# Altium footprint library RD3399-20181026.PcbLib: 57 footprints (part 1 of 4)
Each footprint in its own frame and in the unit in brackets; x right, y up, seen from the top. Pads: shape width x height; smd on the part's side, far side on the other; paste and mask are expansions set on the pad; w line width, h text height; cw(c..) or ccw(c..) is an arc to the next point about the centre after c.
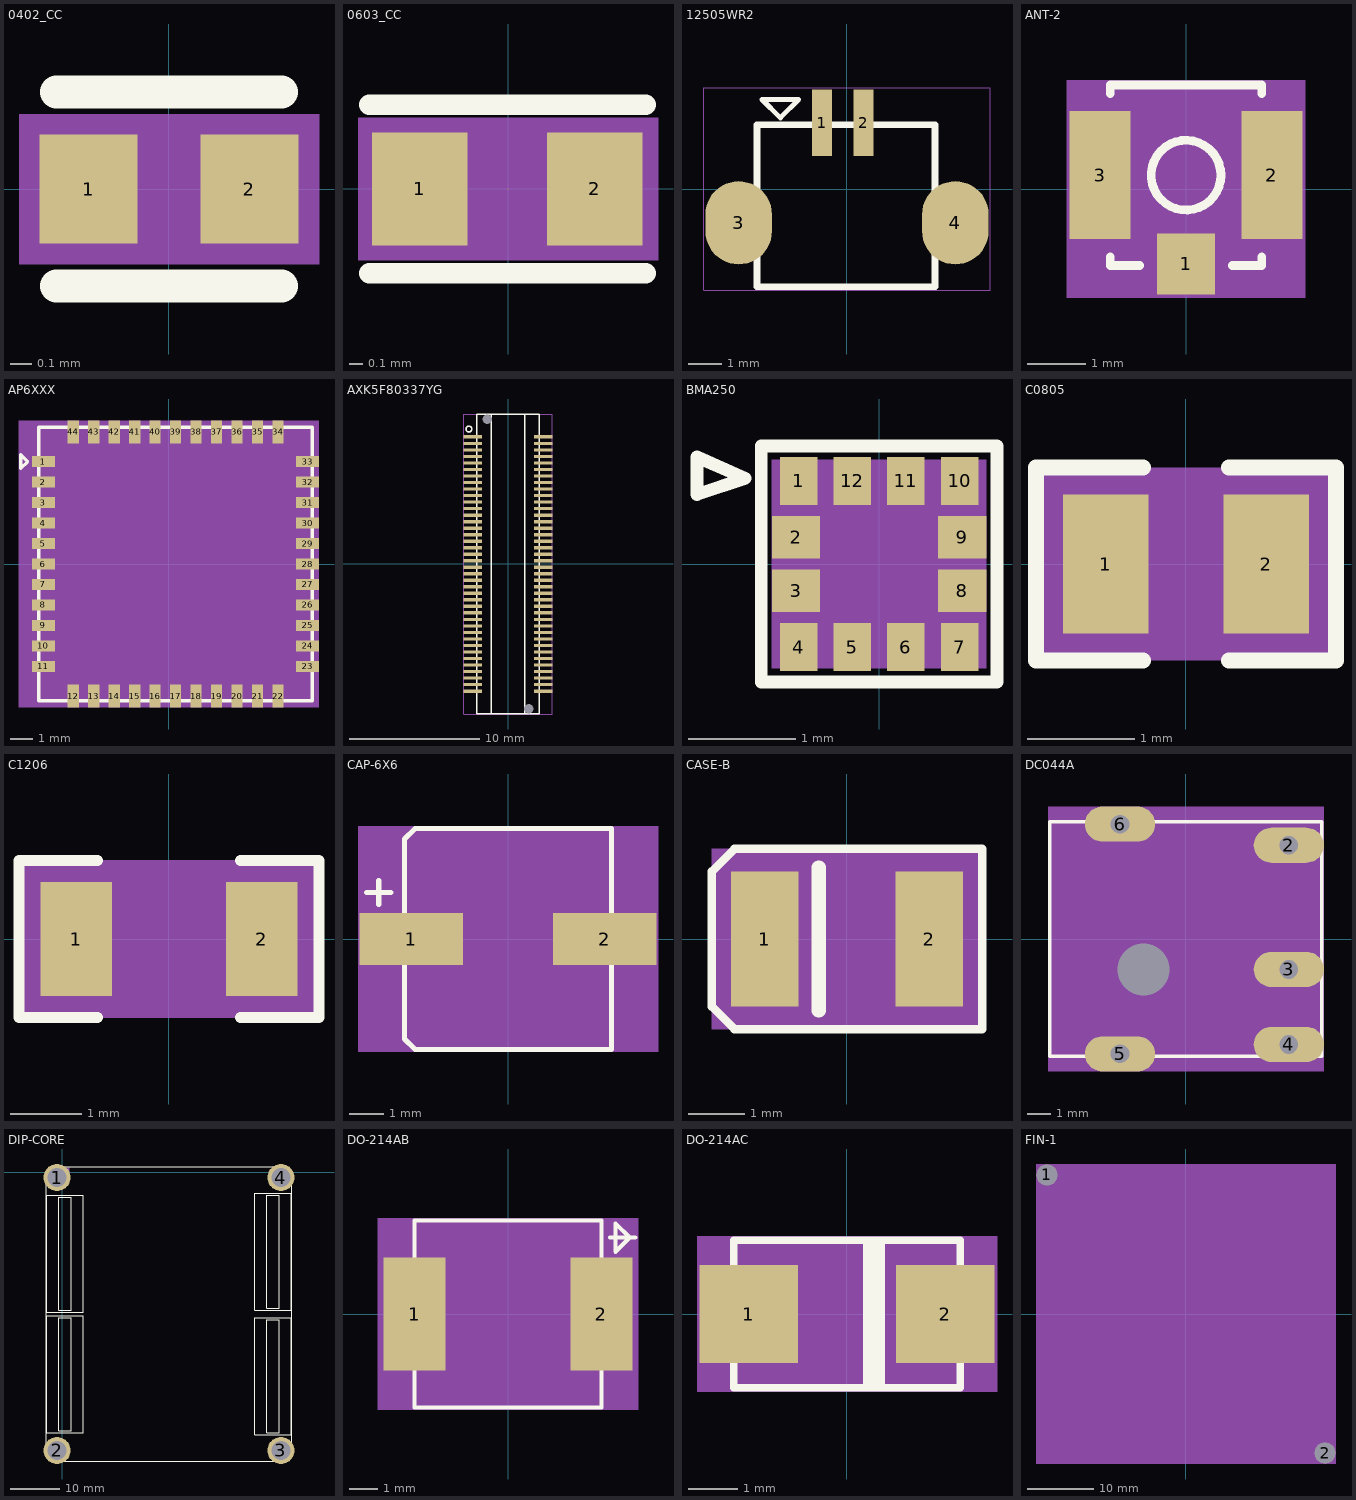
[diagram p0: the footprints below, top view; thin cyan lines are the x and y axes]

## 0402_CC [mil] "0402_CC"
pads (2):
  rect 18x20 smd: 1(-14.76,0) 2(14.76,0)
Top Overlay:
  lines w6: -20.67,-17.83 20.67,-17.83 ; -20.67,17.83 20.67,17.83
  text ".Designator" at -104.33,72.63 h31.5
Mechanical 7:
  text "2" at 14.76,-10 h25
  text "1" at -14.76,-10 h25
Mechanical 8:
  region: -27.56,13.78 -27.56,-13.78 27.56,-13.78 27.56,13.78
Mechanical 9:
  text "0.1uF" at -23.62,-7.87 h25

## 0603_CC [mil] "0603_CC"
pads (2):
  rect 28x33 smd: 1(-25.79,0) 2(25.39,0)
Top Overlay:
  lines w6: -40.67,-24.72 40.27,-24.72 ; -40.67,24.72 40.27,24.72
Mechanical 7:
  text "2" at 25.39,-6.3 h15.75
  text "1" at -25.79,-6.3 h15.75
Mechanical 8:
  region: -38.78,-20.87 43.9,-20.87 43.9,20.87 -43.9,20.87 -43.9,-18.5 -43.9,-20.87
Mechanical 9:
  text "22uF" at -0.2,0 h15.75
  text ".Designator" at -0.24,-50.98 h23.62

## 12505WR2 [mm] "12505WR2"
pads (4):
  rect 0.6x2 smd: 1(-0.75,1.986) 2(0.5,1.986)
  oval 2x2.5 smd: 3(-3.25,-1.014) 4(3.25,-1.014)
Top Overlay:
  lines w0.152: -2.55,2.686 -1.45,2.686 -2,2.136 -2.55,2.686
  lines w0.203: -2.7,-2.934 -2.7,1.926 2.64,1.926 2.64,-2.934 -2.7,-2.934
Mechanical 7:
  text "3" at -3.504,-1.014 h0.64
  text "4" at 2.996,-1.014 h0.64
  text "2" at 0.246,1.986 h0.64
  text "1" at -1.004,1.986 h0.64
Mechanical 8:
  lines w0.025: -4.3,-3.036 -4.3,3.036 4.3,3.036 4.3,-3.036 -4.3,-3.036
Mechanical 9:
  text ".Designator" at -0.9,-0.789 h0.6
  text "3V" at -0.75,-0.554 h1.27

## ANT-2 [mm] "ANT-2"
pads (3):
  rect 1.001x1.049 smd: 1(0,-1.286)
  rect 1.049x2.2 smd: 2(1.476,0.238) 3(-1.476,0.238)
Top Overlay:
  circle w0.15: c0,0.238 r0.599
  lines w0.15: -1.301,-1.162 -1.301,-1.312 -0.8,-1.312 ; -1.301,1.637 -1.301,1.787 1.301,1.787 1.301,1.637 ; 0.8,-1.312 1.301,-1.312 1.301,-1.162
Mechanical 7:
  text "3" at -1.222,0.238 h0.64
  text "2" at 1.73,0.238 h0.64
  text "1" at 0.254,-1.286 h0.64
Mechanical 8:
  region: -2.05,-1.863 2.05,-1.863 2.05,1.863 -2.05,1.863
Mechanical 9:
  text ".Designator" at 0.775,0.587 h0.6
  text "RF_3P" at 0,0.238 h1.27

## AP6XXX [mm] "AP6XXX"
pads (44):
  rect 1x0.5 smd: 1(-5.512,4.5) 2(-5.512,3.6) 3(-5.512,2.7) 4(-5.512,1.8) 5(-5.512,0.9) 6(-5.512,0) 7(-5.512,-0.9) 8(-5.512,-1.8) 9(-5.512,-2.7) 10(-5.512,-3.6) 11(-5.512,-4.5) 23(6.088,-4.5) 24(6.088,-3.6) 25(6.088,-2.7) 26(6.088,-1.8) 27(6.088,-0.9) 28(6.088,0) 29(6.088,0.9) 30(6.088,1.8) 31(6.088,2.7) 32(6.088,3.6) 33(6.088,4.5)
  rect 0.5x1 smd: 12(-4.212,-5.8) 13(-3.312,-5.8) 14(-2.412,-5.8) 15(-1.512,-5.8) 16(-0.612,-5.8) 17(0.288,-5.8) 18(1.188,-5.8) 19(2.088,-5.8) 20(2.988,-5.8) 21(3.888,-5.8) 22(4.788,-5.8) 34(4.788,5.8) 35(3.888,5.8) 36(2.988,5.8) 37(2.088,5.8) 38(1.188,5.8) 39(0.288,5.8) 40(-0.612,5.8) 41(-1.512,5.8) 42(-2.412,5.8) 43(-3.312,5.8) 44(-4.212,5.8)
Top Overlay:
  lines w0.15: -6.512,4.2 -6.212,4.5 -6.512,4.8 -6.512,4.2 ; -5.712,-6 -5.712,6 6.288,6 6.288,-6 -5.712,-6
  text ".Designator" at -3.337,7.95 h0.8
Mechanical 7:
  text "8" at -5.309,-1.8 h0.51
  text "4" at -5.309,1.8 h0.51
  text "32" at 6.494,3.6 h0.51
  text "37" at 2.494,5.8 h0.51
  text "35" at 4.294,5.8 h0.51
  text "38" at 1.594,5.8 h0.51
  text "5" at -5.309,0.9 h0.51
  text "26" at 6.494,-1.8 h0.51
  text "27" at 6.494,-0.9 h0.51
  text "25" at 6.494,-2.7 h0.51
  text "28" at 6.494,0 h0.51
  text "30" at 6.494,1.8 h0.51
  text "40" at -0.206,5.8 h0.51
  text "39" at 0.694,5.8 h0.51
  text "20" at 3.394,-5.8 h0.51
  text "3" at -5.309,2.7 h0.51
  text "1" at -5.309,4.5 h0.51
  text "33" at 6.494,4.5 h0.51
  text "31" at 6.494,2.7 h0.51
  text "36" at 3.394,5.8 h0.51
  text "34" at 5.194,5.8 h0.51
  text "42" at -2.006,5.8 h0.51
  text "12" at -3.806,-5.8 h0.51
  text "7" at -5.309,-0.9 h0.51
  text "6" at -5.309,0 h0.51
  text "24" at 6.494,-3.6 h0.51
  text "44" at -3.806,5.8 h0.51
  text "43" at -2.906,5.8 h0.51
  text "13" at -2.906,-5.8 h0.51
  text "41" at -1.106,5.8 h0.51
  text "22" at 5.194,-5.8 h0.51
  text "10" at -5.106,-3.6 h0.51
  text "11" at -5.106,-4.5 h0.51
  text "21" at 4.294,-5.8 h0.51
  text "2" at -5.309,3.6 h0.51
  text "29" at 6.494,0.9 h0.51
  text "23" at 6.494,-4.5 h0.51
  text "9" at -5.309,-2.7 h0.51
  text "18" at 1.594,-5.8 h0.51
  text "19" at 2.494,-5.8 h0.51
  text "14" at -2.006,-5.8 h0.51
  text "15" at -1.106,-5.8 h0.51
  text "16" at -0.206,-5.8 h0.51
  text "17" at 0.694,-5.8 h0.51
Mechanical 8:
  region: -6.587,-6.3 6.588,-6.3 6.588,6.3 -6.587,6.3
Mechanical 9:
  text "AP6212" at -0.112,-0.5 h1.27

## AXK5F80337YG [mm] "AXK5F80337YG"
pads (82):
  rect 1.39x0.254 smd: 1(-2.7,9.75) 2(-2.7,9.25) 3(-2.7,8.75) 4(-2.7,8.25) 5(-2.7,7.75) 6(-2.7,7.25) 7(-2.7,6.75) 8(-2.7,6.25) 9(-2.7,5.75) 10(-2.7,5.25) 11(-2.7,4.75) 12(-2.7,4.25) 13(-2.7,3.75) 14(-2.7,3.25) 15(-2.7,2.75) 16(-2.7,2.25) 17(-2.7,1.75) 18(-2.7,1.25) 19(-2.7,0.75) 20(-2.7,0.25) 21(-2.7,-0.25) 22(-2.7,-0.75) 23(-2.7,-1.25) 24(-2.7,-1.75) 25(-2.7,-2.25) 26(-2.7,-2.75) 27(-2.7,-3.25) 28(-2.7,-3.75) 29(-2.7,-4.25) 30(-2.7,-4.75) 31(-2.7,-5.25) 32(-2.7,-5.75) 33(-2.7,-6.25) 34(-2.7,-6.75) 35(-2.7,-7.25) 36(-2.7,-7.75) 37(-2.7,-8.25) 38(-2.7,-8.75) 39(-2.7,-9.25) 40(-2.7,-9.75) 41(2.7,-9.75) 42(2.7,-9.25) 43(2.7,-8.75) 44(2.7,-8.25) 45(2.7,-7.75) 46(2.7,-7.25) 47(2.7,-6.75) 48(2.7,-6.25) 49(2.7,-5.75) 50(2.7,-5.25) 51(2.7,-4.75) 52(2.7,-4.25) 53(2.7,-3.75) 54(2.7,-3.25) 55(2.7,-2.75) 56(2.7,-2.25) 57(2.7,-1.75) 58(2.7,-1.25) 59(2.7,-0.75) 60(2.7,-0.25) 61(2.7,0.25) 62(2.7,0.75) 63(2.7,1.25) 64(2.7,1.75) 65(2.7,2.25) 66(2.7,2.75) 67(2.7,3.25) 68(2.7,3.75) 69(2.7,4.25) 70(2.7,4.75) 71(2.7,5.25) 72(2.7,5.75) 73(2.7,6.25) 74(2.7,6.75) 75(2.7,7.25) 76(2.7,7.75) 77(2.7,8.25) 78(2.7,8.75) 79(2.7,9.25) 80(2.7,9.75)
  round 0.6 hole 0.75: " "(-1.6,11.1) " "(1.6,-11.1)
Top Overlay:
  circle w0.12: c-3,10.35 r0.224
  lines w0.12: -2.4,-11.5 -2.4,11.5 2.4,11.5 2.4,-11.5 -2.4,-11.5 ; -1.3,-11.5 -1.3,11.5 -0.9,11.5 1.3,11.5 1.3,-11.5 -1.3,-11.5
Mechanical 7:
  text "75" at 2.192,7.25 h0.64
  text "78" at 2.192,8.75 h0.64
  text "67" at 2.192,3.25 h0.64
  text "5" at -2.954,7.75 h0.64
  text "9" at -2.954,5.75 h0.64
  text "12" at -3.208,4.25 h0.64
  text "15" at -3.208,2.75 h0.64
  text "62" at 2.192,0.75 h0.64
  text "57" at 2.192,-1.75 h0.64
  text "24" at -3.208,-1.75 h0.64
  text "18" at -3.208,1.25 h0.64
  text "21" at -3.208,-0.25 h0.64
  text "52" at 2.192,-4.25 h0.64
  text "27" at -3.208,-3.25 h0.64
  text "30" at -3.208,-4.75 h0.64
  text "33" at -3.208,-6.25 h0.64
  text "36" at -3.208,-7.75 h0.64
  text "37" at -3.208,-8.25 h0.64
  text "38" at -3.208,-8.75 h0.64
  text "40" at -3.208,-9.75 h0.64
  text "39" at -3.208,-9.25 h0.64
  text "74" at 2.192,6.75 h0.64
  text "45" at 2.192,-7.75 h0.64
  text "46" at 2.192,-7.25 h0.64
  text "63" at 2.192,1.25 h0.64
  text "70" at 2.192,4.75 h0.64
  text "76" at 2.192,7.75 h0.64
  text "64" at 2.192,1.75 h0.64
  text "44" at 2.192,-8.25 h0.64
  text "65" at 2.192,2.25 h0.64
  text "42" at 2.192,-9.25 h0.64
  text "41" at 2.192,-9.75 h0.64
  text "72" at 2.192,5.75 h0.64
  text "77" at 2.192,8.25 h0.64
  text "4" at -2.954,8.25 h0.64
  text "73" at 2.192,6.25 h0.64
  text "71" at 2.192,5.25 h0.64
  text "66" at 2.192,2.75 h0.64
  text "7" at -2.954,6.75 h0.64
  text "8" at -2.954,6.25 h0.64
  text "1" at -2.954,9.75 h0.64
  text "80" at 2.192,9.75 h0.64
  text "79" at 2.192,9.25 h0.64
  text "43" at 2.192,-8.75 h0.64
  text "48" at 2.192,-6.25 h0.64
  text "50" at 2.192,-5.25 h0.64
  text "49" at 2.192,-5.75 h0.64
  text "51" at 2.192,-4.75 h0.64
  text "2" at -2.954,9.25 h0.64
  text "3" at -2.954,8.75 h0.64
  text "47" at 2.192,-6.75 h0.64
  text "28" at -3.208,-3.75 h0.64
  text "20" at -3.208,0.25 h0.64
  text "13" at -3.208,3.75 h0.64
  text "10" at -3.208,5.25 h0.64
  text "32" at -3.208,-5.75 h0.64
  text "14" at -3.208,3.25 h0.64
  text "19" at -3.208,0.75 h0.64
  text "16" at -3.208,2.25 h0.64
  text "11" at -3.208,4.75 h0.64
  text "23" at -3.208,-1.25 h0.64
  text "17" at -3.208,1.75 h0.64
  text "22" at -3.208,-0.75 h0.64
  text "25" at -3.208,-2.25 h0.64
  text "26" at -3.208,-2.75 h0.64
  text "60" at 2.192,-0.25 h0.64
  text "55" at 2.192,-2.75 h0.64
  text "58" at 2.192,-1.25 h0.64
  text "56" at 2.192,-2.25 h0.64
  text "53" at 2.192,-3.75 h0.64
  text "59" at 2.192,-0.75 h0.64
  text "54" at 2.192,-3.25 h0.64
  text "69" at 2.192,4.25 h0.64
  text "61" at 2.192,0.25 h0.64
  text "35" at -3.208,-7.25 h0.64
  text "29" at -3.208,-4.25 h0.64
  text "34" at -3.208,-6.75 h0.64
  text "68" at 2.192,3.75 h0.64
  text "31" at -3.208,-5.25 h0.64
  text "6" at -2.954,7.25 h0.64
Mechanical 8:
  lines w0.025: -3.395,-11.506 -3.395,11.506 3.395,11.506 3.395,-11.506 -3.395,-11.506
Mechanical 9:
  lines w0.025: -3.395,-11.506 -3.395,11.506 3.395,11.506 3.395,-11.506 -3.395,-11.506
  text ".Designator" at -0.55,-1.025 h0.6
  text "AXK5F80337YG" at -0.7,-2 h1.27

## BMA250 [mm] "BMA250"
pads (12):
  rect 0.35x0.45 smd: 1(-0.75,0.775) 4(-0.75,-0.775) 5(-0.25,-0.775) 6(0.25,-0.775) 7(0.75,-0.775) 10(0.75,0.775) 11(0.25,0.775) 12(-0.25,0.775)
  rect 0.45x0.4 smd: 2(-0.775,0.25) 3(-0.775,-0.25) 8(0.775,-0.25) 9(0.775,0.25)
Top Overlay:
  lines w0.12: -1.7,0.65 -1.7,1 -1.25,0.8 -1.7,0.65 ; -1.1,-1.1 1.1,-1.1 1.1,1.1 -1.1,1.1 -1.1,-1.1
  text ".Designator" at 0.5,-1.45 h0.7
Mechanical 7:
  text "10" at 1.258,0.775 h0.64
  text "6" at 0.504,-0.775 h0.64
  text "4" at -0.496,-0.775 h0.64
  text "8" at 1.029,-0.25 h0.64
  text "9" at 1.029,0.25 h0.64
  text "2" at -0.521,0.25 h0.64
  text "3" at -0.521,-0.25 h0.64
  text "11" at 0.758,0.775 h0.64
  text "12" at 0.258,0.775 h0.64
  text "7" at 1.004,-0.775 h0.64
  text "5" at 0.004,-0.775 h0.64
  text "1" at -0.496,0.775 h0.64
Mechanical 8:
  region: -1,-0.975 1,-0.975 1,0.975 -1,0.975

## C0805 [mm] "C0805"
pads (2):
  rect 0.8x1.3 smd: 1(-0.75,0) 2(0.75,0)
Top Overlay:
  lines w0.15: -0.4,-0.9 -1.4,-0.9 -1.4,0.9 -0.4,0.9 ; 0.4,-0.9 1.4,-0.9 1.4,0.9 0.4,0.9
  text ".Designator" at 1.25,2.05 h0.7
Mechanical 7:
  text "2" at 1.004,0 h0.64
  text "1" at -0.496,0 h0.64
Mechanical 8:
  region: 1.4,0.9 -1.4,0.9 -1.4,-0.9 1.4,-0.9
Mechanical 9:
  text "22uF 16V" at -1.3,-0.4 h1

## C1206 [mm] "C1206"
pads (2):
  rect 1x1.6 smd: 1(-1.299,0) 2(1.3,0)
Top Overlay:
  lines w0.15: -1,-1.1 -2.1,-1.1 -2.1,1.1 -1,1.1 ; 1,-1.1 2.1,-1.1 2.1,1.1 1,1.1
  text ".Designator" at 2.675,1.625 h0.8
Mechanical 7:
  text "2" at 1.3,0.254 h0.64
  text "1" at -1.299,0.254 h0.64
Mechanical 8:
  region: 2.1,-1.1 2.1,1.1 -2.1,1.1 -2.1,-1.1
Mechanical 9:
  text "10nF 1KV" at -1.3,-0.599 h1.27

## CAP-6X6 [mm] "CAP-6X6"
pads (2):
  rect 3x1.5 smd: 1(-2.8,0) 2(2.8,0)
Top Overlay:
  lines w0.15: -4.1,1.35 -3.4,1.35 ; -3.75,1 -3.75,1.7 ; -3,-2.9 -2.7,-3.2 3,-3.2 3,-3 3,3 3,3.2 -2.7,3.2 -3,2.9 -3,2.7 -3,1 -3,-2.7 -3,-2.9
  text ".Designator" at -0.775,-10.65 h0.7
Mechanical 7:
  text "2" at 3.003,0 h0.51
  text "1" at -2.597,0 h0.51
Mechanical 8:
  region: -4.35,-3.275 4.35,-3.275 4.35,3.275 -4.35,3.275
Mechanical 9:
  text "220uF 16V" at -1,-0.7 h1.27

## CASE-B [mm] "CASE-B"
pads (2):
  rect 1.2x2.4 smd: 1(-1.464,0) 2(1.465,0)
Top Overlay:
  lines w0.15: -2.4,-1.2 -2,-1.6 -0.1,-1.6 2.4,-1.6 2.4,1.6 -2,1.6 -2.4,1.2 -2.4,-1.2
  lines w0.254: -0.5,-1.27 -0.5,1.27
  text ".Designator" at 2.825,1.525 h0.7
Mechanical 7:
  text "2" at 1.465,0.254 h0.64
  text "1" at -1.464,0.254 h0.64
Mechanical 8:
  region: 2.4,1.6 -2.4,1.6 -2.4,-1.6 2.4,-1.6
Mechanical 9:
  text "220uF 10V" at -1.699,-0.599 h1.27

## DC044A [mm] "DC044A"
pads (6):
  oval 3x1.5 hole 0.8: 2(4.388,4) 3(4.388,-1.3) 4(4.388,-4.5) 5(-2.812,-4.9) 6(-2.812,4.9)
  round 2 hole 2.2: " "(-1.812,-1.3)
Top Overlay:
  lines w0.15: -5.812,-5 -5.812,5 5.788,5 5.788,-5 -5.812,-5
Mechanical 7:
  text "3" at 4.388,-1.364 h0.08
  text "4" at 4.388,-4.564 h0.08
  text "6" at -2.812,4.836 h0.08
  text "5" at -2.812,-4.964 h0.08
  text "2" at 4.388,3.936 h0.08
Mechanical 8:
  region: -5.887,-5.65 5.888,-5.65 5.888,5.65 -5.887,5.65
Mechanical 9:
  text ".Designator" at -2.612,-1.5 h0.6
  text "DC_5V" at 2.887,7.3 h0.6

## DIP-CORE [mm] "DIP-CORE"
pads (4):
  round 5.5 hole 3.8: 1(-1.06,-1.095) 2(-1.06,-56.695) 3(44.54,-56.695) 4(44.54,-1.095)
Top Overlay:
  lines w0.12: -0.735,-52.67 -0.735,-29.67 1.865,-29.67 1.865,-52.67 -0.735,-52.67 ; -0.735,-28.12 -0.735,-5.12 1.865,-5.12 1.865,-28.12 -0.735,-28.12 ; 41.615,-53.07 41.615,-30.07 44.215,-30.07 44.215,-53.07 41.615,-53.07 ; 41.615,-27.72 41.615,-4.72 44.215,-4.72 44.215,-27.72 41.615,-27.72
  lines w0.15: -3.26,-56.895 ccw(c-1.26,-56.895) -1.26,-58.895 44.64,-58.895 ccw(c44.64,-56.795) 46.74,-56.795 46.74,-1.095 ccw(c44.54,-1.095) 44.54,1.105 11.44,1.105 -0.96,1.105 ccw(c-0.96,-1.195) -3.26,-1.195 -3.26,-56.895 ; -3.11,-53.095 -3.11,-29.245 4.24,-29.245 4.24,-53.095 -3.11,-53.095 ; -3.11,-28.545 -3.11,-4.695 4.24,-4.695 4.24,-28.545 -3.11,-28.545 ; 39.24,-53.495 39.24,-29.645 46.59,-29.645 46.59,-53.495 39.24,-53.495 ; 39.24,-28.145 39.24,-4.295 46.59,-4.295 46.59,-28.145 39.24,-28.145
  text ".Designator" at 22.015,-60.52 h0.8
Mechanical 7:
  text "1" at -1.568,-1.095 h0.64
  text "4" at 44.032,-1.095 h0.64
  text "3" at 44.032,-56.695 h0.64
  text "2" at -1.568,-56.695 h0.64
Mechanical 8:
  region: -1.41,0.905 -1.41,-0.905 1.41,-0.905 1.41,0.905
Mechanical 9:
  text "CON4" at 24.69,-29.545 h1.27

## DO-214AB [mm] "DO-214AB"
pads (2):
  rect 2.2x4 smd: 1(-3.3,0) 2(3.3,0)
Top Overlay:
  lines w0.15: 3.6,2.7 4.5,2.7 ; -3.3,-3.3 -3.3,3.3 3.3,3.3 3.3,-3.3 -3.3,-3.3 ; 3.8,2.2 4.3,2.7 3.8,3.2 3.8,3 3.8,2.2
  text ".Designator" at 15.375,1.55 h0.8
Mechanical 7:
  text "1" at -3.3,0.254 h0.64
  text "2" at 3.3,0.254 h0.64
Mechanical 8:
  region: -4.6,-3.375 4.6,-3.375 4.6,3.375 -4.6,3.375
Mechanical 9:
  text "B530C" at 0,0 h1.27

## DO-214AC [mm] "DO-214AC"
pads (2):
  rect 1.999x1.999 smd: 1(-1.999,0) 2(1.999,0)
Top Overlay:
  lines w0.152: 0.399,-1.501 0.399,1.501 ; 0.551,-1.501 0.551,1.501 ; 0.701,-1.501 0.701,1.501 ; -2.301,-1.501 2.301,-1.501 2.301,1.501 -2.301,1.501 -2.301,-1.501
  text ".Designator" at 1.4,2.675 h0.8
Mechanical 7:
  text "1" at -1.999,0.254 h0.64
  text "2" at 1.999,0.254 h0.64
Mechanical 8:
  region: -3.05,-1.577 3.051,-1.577 3.051,1.577 -3.05,1.577
Mechanical 9:
  text "M7" at 0,0 h1.27

## FIN-1 [mm] "FIN-1"
pads (2):
  round 3.1 hole 3.1: 1(-20.9,20.9) 2(20.9,-20.9)
Mechanical 7:
  text "2" at 21.134,-20.999 h0.64
  text "1" at -20.666,20.801 h0.64
Mechanical 8:
  region: -22.55,-22.55 22.55,-22.55 22.55,22.55 -22.55,22.55
Mechanical 9:
  text ".Designator" at 6.174,-35.718 h0.6